# EAGLE library part HEX (library dec-con)
Hex-Height DEC Edge Connector
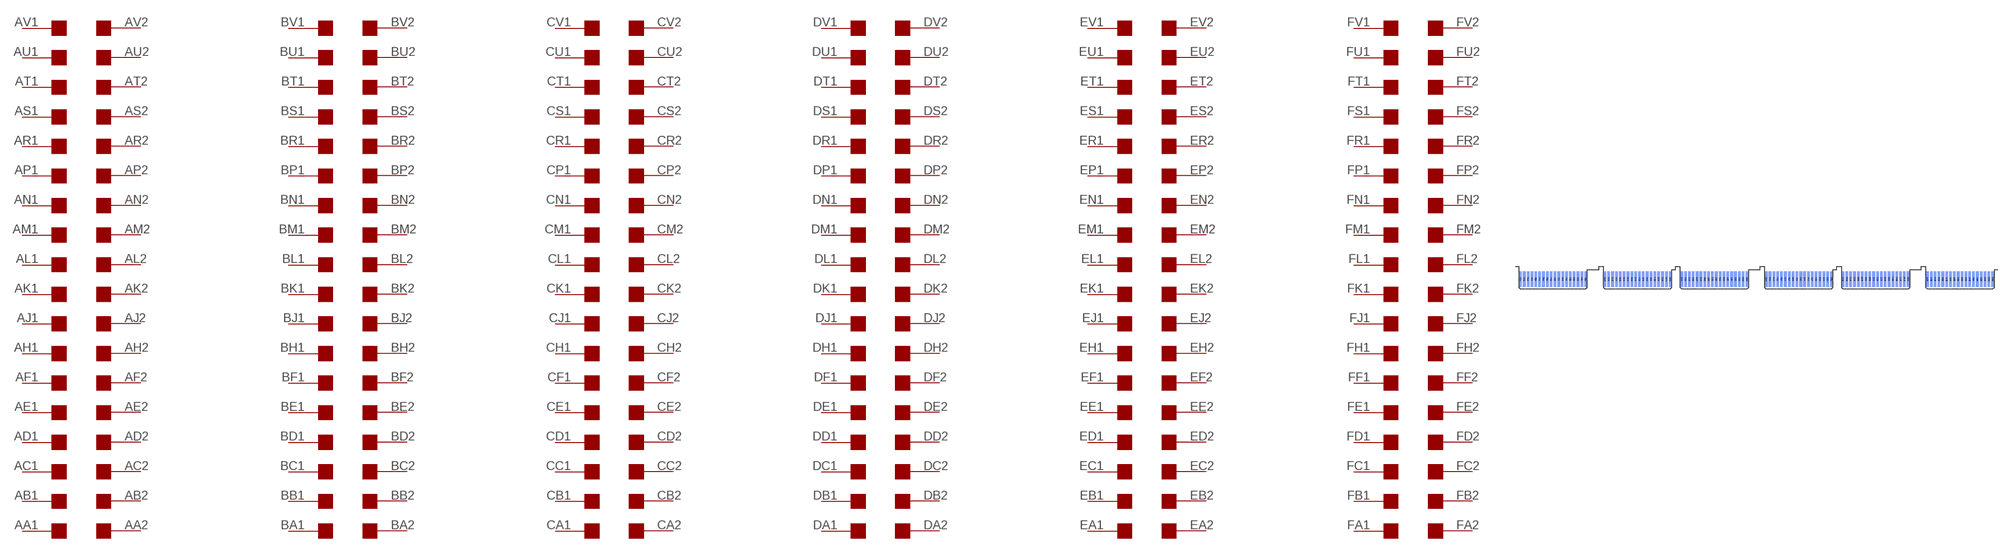
[diagram p14: symbol with the pads of EDGE-CON12; footprint EDGE-CON12]

Designator prefix -; gates AL2=EDGE-RIGHT AM2=EDGE-RIGHT AN2=EDGE-RIGHT AP2=EDGE-RIGHT AR2=EDGE-RIGHT AS2=EDGE-RIGHT AT2=EDGE-RIGHT AK2=EDGE-RIGHT AJ2=EDGE-RIGHT AH2=EDGE-RIGHT AF2=EDGE-RIGHT AE2=EDGE-RIGHT AD2=EDGE-RIGHT AC2=EDGE-RIGHT AU2=EDGE-RIGHT AV2=EDGE-RIGHT AB2=EDGE-RIGHT AA2=EDGE-RIGHT AK1=EDGE-LEFT AL1=EDGE-LEFT AM1=EDGE-LEFT AN1=EDGE-LEFT AP1=EDGE-LEFT AR1=EDGE-LEFT AS1=EDGE-LEFT AT1=EDGE-LEFT AU1=EDGE-LEFT AV1=EDGE-LEFT AJ1=EDGE-LEFT AH1=EDGE-LEFT AF1=EDGE-LEFT AE1=EDGE-LEFT AD1=EDGE-LEFT AC1=EDGE-LEFT AB1=EDGE-LEFT AA1=EDGE-LEFT BV1=EDGE-LEFT BU1=EDGE-LEFT BT1=EDGE-LEFT BS1=EDGE-LEFT BR1=EDGE-LEFT BP1=EDGE-LEFT BN1=EDGE-LEFT BM1=EDGE-LEFT BL1=EDGE-LEFT BK1=EDGE-LEFT BJ1=EDGE-LEFT BH1=EDGE-LEFT BF1=EDGE-LEFT BE1=EDGE-LEFT BD1=EDGE-LEFT BC1=EDGE-LEFT BB1=EDGE-LEFT BA1=EDGE-LEFT BV2=EDGE-RIGHT BU2=EDGE-RIGHT BT2=EDGE-RIGHT BS2=EDGE-RIGHT BR2=EDGE-RIGHT BP2=EDGE-RIGHT BN2=EDGE-RIGHT BM2=EDGE-RIGHT BL2=EDGE-RIGHT BK2=EDGE-RIGHT BJ2=EDGE-RIGHT BH2=EDGE-RIGHT BF2=EDGE-RIGHT BE2=EDGE-RIGHT BD2=EDGE-RIGHT BC2=EDGE-RIGHT BB2=EDGE-RIGHT BA2=EDGE-RIGHT CV1=EDGE-LEFT CU1=EDGE-LEFT CT1=EDGE-LEFT CS1=EDGE-LEFT CR1=EDGE-LEFT CP1=EDGE-LEFT CN1=EDGE-LEFT CM1=EDGE-LEFT CL1=EDGE-LEFT CK1=EDGE-LEFT CJ1=EDGE-LEFT CH1=EDGE-LEFT CF1=EDGE-LEFT CE1=EDGE-LEFT CD1=EDGE-LEFT CC1=EDGE-LEFT CB1=EDGE-LEFT CA1=EDGE-LEFT DV1=EDGE-LEFT DU1=EDGE-LEFT DT1=EDGE-LEFT DS1=EDGE-LEFT DR1=EDGE-LEFT DP1=EDGE-LEFT DN1=EDGE-LEFT DM1=EDGE-LEFT DL1=EDGE-LEFT DK1=EDGE-LEFT DJ1=EDGE-LEFT DH1=EDGE-LEFT DF1=EDGE-LEFT DE1=EDGE-LEFT DD1=EDGE-LEFT DC1=EDGE-LEFT DB1=EDGE-LEFT DA1=EDGE-LEFT CV2=EDGE-RIGHT CU2=EDGE-RIGHT CT2=EDGE-RIGHT CS2=EDGE-RIGHT CR2=EDGE-RIGHT CP2=EDGE-RIGHT CN2=EDGE-RIGHT CM2=EDGE-RIGHT CL2=EDGE-RIGHT CK2=EDGE-RIGHT CJ2=EDGE-RIGHT CH2=EDGE-RIGHT CF2=EDGE-RIGHT CE2=EDGE-RIGHT CD2=EDGE-RIGHT CC2=EDGE-RIGHT CB2=EDGE-RIGHT CA2=EDGE-RIGHT DV2=EDGE-RIGHT DU2=EDGE-RIGHT DT2=EDGE-RIGHT DS2=EDGE-RIGHT DR2=EDGE-RIGHT DP2=EDGE-RIGHT DN2=EDGE-RIGHT DM2=EDGE-RIGHT DL2=EDGE-RIGHT DK2=EDGE-RIGHT DJ2=EDGE-RIGHT DH2=EDGE-RIGHT DF2=EDGE-RIGHT DE2=EDGE-RIGHT DD2=EDGE-RIGHT DC2=EDGE-RIGHT DB2=EDGE-RIGHT DA2=EDGE-RIGHT EV1=EDGE-LEFT EU1=EDGE-LEFT ET1=EDGE-LEFT ES1=EDGE-LEFT ER1=EDGE-LEFT EP1=EDGE-LEFT EN1=EDGE-LEFT EM1=EDGE-LEFT EL1=EDGE-LEFT EK1=EDGE-LEFT EJ1=EDGE-LEFT EH1=EDGE-LEFT EF1=EDGE-LEFT EE1=EDGE-LEFT ED1=EDGE-LEFT EC1=EDGE-LEFT EB1=EDGE-LEFT EA1=EDGE-LEFT FV1=EDGE-LEFT FU1=EDGE-LEFT FT1=EDGE-LEFT FS1=EDGE-LEFT FR1=EDGE-LEFT FP1=EDGE-LEFT FN1=EDGE-LEFT FM1=EDGE-LEFT FL1=EDGE-LEFT FK1=EDGE-LEFT FJ1=EDGE-LEFT FH1=EDGE-LEFT FF1=EDGE-LEFT FE1=EDGE-LEFT FD1=EDGE-LEFT FC1=EDGE-LEFT FB1=EDGE-LEFT FA1=EDGE-LEFT EV2=EDGE-RIGHT EU2=EDGE-RIGHT ET2=EDGE-RIGHT ES2=EDGE-RIGHT ER2=EDGE-RIGHT EP2=EDGE-RIGHT EN2=EDGE-RIGHT EM2=EDGE-RIGHT EL2=EDGE-RIGHT EK2=EDGE-RIGHT EJ2=EDGE-RIGHT EH2=EDGE-RIGHT EF2=EDGE-RIGHT EE2=EDGE-RIGHT ED2=EDGE-RIGHT EC2=EDGE-RIGHT EB2=EDGE-RIGHT EA2=EDGE-RIGHT FV2=EDGE-RIGHT FU2=EDGE-RIGHT FT2=EDGE-RIGHT FS2=EDGE-RIGHT FR2=EDGE-RIGHT FP2=EDGE-RIGHT FN2=EDGE-RIGHT FM2=EDGE-RIGHT FL2=EDGE-RIGHT FK2=EDGE-RIGHT FJ2=EDGE-RIGHT FH2=EDGE-RIGHT FF2=EDGE-RIGHT FE2=EDGE-RIGHT FD2=EDGE-RIGHT FC2=EDGE-RIGHT FB2=EDGE-RIGHT FA2=EDGE-RIGHT

## HEX  [EDGE-CON12]
AA1  AA1:1
AA2  AA2:1
AB1  AB1:1
AB2  AB2:1
AC1  AC1:1
AC2  AC2:1
AD1  AD1:1
AD2  AD2:1
AE1  AE1:1
AE2  AE2:1
AF1  AF1:1
AF2  AF2:1
AH1  AH1:1
AH2  AH2:1
AJ1  AJ1:1
AJ2  AJ2:1
AK1  AK1:1
AK2  AK2:1
AL1  AL1:1
AL2  AL2:1
AM1  AM1:1
AM2  AM2:1
AN1  AN1:1
AN2  AN2:1
AP1  AP1:1
AP2  AP2:1
AR1  AR1:1
AR2  AR2:1
AS1  AS1:1
AS2  AS2:1
AT1  AT1:1
AT2  AT2:1
AU1  AU1:1
AU2  AU2:1
AV1  AV1:1
AV2  AV2:1
BA1  BA1:1
BA2  BA2:1
BB1  BB1:1
BB2  BB2:1
BC1  BC1:1
BC2  BC2:1
BD1  BD1:1
BD2  BD2:1
BE1  BE1:1
BE2  BE2:1
BF1  BF1:1
BF2  BF2:1
BH1  BH1:1
BH2  BH2:1
BJ1  BJ1:1
BJ2  BJ2:1
BK1  BK1:1
BK2  BK2:1
BL1  BL1:1
BL2  BL2:1
BM1  BM1:1
BM2  BM2:1
BN1  BN1:1
BN2  BN2:1
BP1  BP1:1
BP2  BP2:1
BR1  BR1:1
BR2  BR2:1
BS1  BS1:1
BS2  BS2:1
BT1  BT1:1
BT2  BT2:1
BU1  BU1:1
BU2  BU2:1
BV1  BV1:1
BV2  BV2:1
CA1  CA1:1
CA2  CA2:1
CB1  CB1:1
CB2  CB2:1
CC1  CC1:1
CC2  CC2:1
CD1  CD1:1
CD2  CD2:1
CE1  CE1:1
CE2  CE2:1
CF1  CF1:1
CF2  CF2:1
CH1  CH1:1
CH2  CH2:1
CJ1  CJ1:1
CJ2  CJ2:1
CK1  CK1:1
CK2  CK2:1
CL1  CL1:1
CL2  CL2:1
CM1  CM1:1
CM2  CM2:1
CN1  CN1:1
CN2  CN2:1
CP1  CP1:1
CP2  CP2:1
CR1  CR1:1
CR2  CR2:1
CS1  CS1:1
CS2  CS2:1
CT1  CT1:1
CT2  CT2:1
CU1  CU1:1
CU2  CU2:1
CV1  CV1:1
CV2  CV2:1
DA1  DA1:1
DA2  DA2:1
DB1  DB1:1
DB2  DB2:1
DC1  DC1:1
DC2  DC2:1
DD1  DD1:1
DD2  DD2:1
DE1  DE1:1
DE2  DE2:1
DF1  DF1:1
DF2  DF2:1
DH1  DH1:1
DH2  DH2:1
DJ1  DJ1:1
DJ2  DJ2:1
DK1  DK1:1
DK2  DK2:1
DL1  DL1:1
DL2  DL2:1
DM1  DM1:1
DM2  DM2:1
DN1  DN1:1
DN2  DN2:1
DP1  DP1:1
DP2  DP2:1
DR1  DR1:1
DR2  DR2:1
DS1  DS1:1
DS2  DS2:1
DT1  DT1:1
DT2  DT2:1
DU1  DU1:1
DU2  DU2:1
DV1  DV1:1
DV2  DV2:1
EA1  EA1:1
EA2  EA2:1
EB1  EB1:1
EB2  EB2:1
EC1  EC1:1
EC2  EC2:1
ED1  ED1:1
ED2  ED2:1
EE1  EE1:1
EE2  EE2:1
EF1  EF1:1
EF2  EF2:1
EH1  EH1:1
EH2  EH2:1
EJ1  EJ1:1
EJ2  EJ2:1
EK1  EK1:1
EK2  EK2:1
EL1  EL1:1
EL2  EL2:1
EM1  EM1:1
EM2  EM2:1
EN1  EN1:1
EN2  EN2:1
EP1  EP1:1
EP2  EP2:1
ER1  ER1:1
ER2  ER2:1
ES1  ES1:1
ES2  ES2:1
ET1  ET1:1
ET2  ET2:1
EU1  EU1:1
EU2  EU2:1
EV1  EV1:1
EV2  EV2:1
FA1  FA1:1
FA2  FA2:1
FB1  FB1:1
FB2  FB2:1
FC1  FC1:1
FC2  FC2:1
FD1  FD1:1
FD2  FD2:1
FE1  FE1:1
FE2  FE2:1
FF1  FF1:1
FF2  FF2:1
FH1  FH1:1
FH2  FH2:1
FJ1  FJ1:1
FJ2  FJ2:1
FK1  FK1:1
FK2  FK2:1
FL1  FL1:1
FL2  FL2:1
FM1  FM1:1
FM2  FM2:1
FN1  FN1:1
FN2  FN2:1
FP1  FP1:1
FP2  FP2:1
FR1  FR1:1
FR2  FR2:1
FS1  FS1:1
FS2  FS2:1
FT1  FT1:1
FT2  FT2:1
FU1  FU1:1
FU2  FU2:1
FV1  FV1:1
FV2  FV2:1

## Footprint EDGE-CON12 (pad centres in mm)
HexHeight DEC edge connector
smd 2.032 x 13.106: AA1 394.652,7.938; AB1 391.478,7.938; AC1 388.303,7.938; AD1 385.127,7.938; AE1 381.952,7.938; AF1 378.777,7.938; AH1 375.603,7.938; AJ1 372.428,7.938; AK1 369.252,7.938; AL1 366.077,7.938; AM1 362.902,7.938; AN1 359.728,7.938; AP1 356.553,7.938; AR1 353.377,7.938; AS1 350.202,7.938; AT1 347.027,7.938; AU1 343.853,7.938; AV1 340.678,7.938; BA1 324.803,7.938; BB1 321.627,7.938; BC1 318.452,7.938; BD1 315.277,7.938; BE1 312.103,7.938; BF1 308.928,7.938; BH1 305.752,7.938; BJ1 302.577,7.938; BK1 299.402,7.938; BL1 296.228,7.938; BM1 293.053,7.938; BN1 289.877,7.938; BP1 286.702,7.938; BR1 283.527,7.938; BS1 280.353,7.938; BT1 277.178,7.938; BU1 274.002,7.938; BV1 270.827,7.938; CA1 261.303,7.938; CB1 258.127,7.938; CC1 254.952,7.938; CD1 251.778,7.938; CE1 248.602,7.938; CF1 245.428,7.938; CH1 242.252,7.938; CJ1 239.077,7.938; CK1 235.903,7.938; CL1 232.727,7.938; CM1 229.553,7.938; CN1 226.377,7.938; CP1 223.202,7.938; CR1 220.028,7.938; CS1 216.852,7.938; CT1 213.678,7.938; CU1 210.502,7.938; CV1 207.327,7.938; DA1 191.452,7.938; DB1 188.278,7.938; DC1 185.102,7.938; DD1 181.928,7.938; DE1 178.752,7.938; DF1 175.577,7.938; DH1 172.403,7.938; DJ1 169.227,7.938; DK1 166.053,7.938; DL1 162.877,7.938; DM1 159.702,7.938; DN1 156.528,7.938; DP1 153.352,7.938; DR1 150.178,7.938; DS1 147.002,7.938; DT1 143.827,7.938; DU1 140.653,7.938; DV1 137.477,7.938; EA1 127.953,7.938; EB1 124.778,7.938; EC1 121.603,7.938; ED1 118.427,7.938; EE1 115.252,7.938; EF1 112.078,7.938; EH1 108.903,7.938; EJ1 105.728,7.938; EK1 102.552,7.938; EL1 99.377,7.938; EM1 96.203,7.938; EN1 93.028,7.938; EP1 89.853,7.938; ER1 86.677,7.938; ES1 83.502,7.938; ET1 80.328,7.938; EU1 77.153,7.938; EV1 73.978,7.938; FA1 58.102,7.938; FB1 54.928,7.938; FC1 51.752,7.938; FD1 48.578,7.938; FE1 45.403,7.938; FF1 42.227,7.938; FH1 39.053,7.938; FJ1 35.877,7.938; FK1 32.703,7.938; FL1 29.527,7.938; FM1 26.352,7.938; FN1 23.177,7.938; FP1 20.003,7.938; FR1 16.828,7.938; FS1 13.652,7.938; FT1 10.477,7.938; FU1 7.303,7.938; FV1 4.128,7.938
smd 2.032 x 13.106 bottom: AA2 394.652,7.938; AB2 391.478,7.938; AC2 388.303,7.938; AD2 385.127,7.938; AE2 381.952,7.938; AF2 378.777,7.938; AH2 375.603,7.938; AJ2 372.428,7.938; AK2 369.252,7.938; AL2 366.077,7.938; AM2 362.902,7.938; AN2 359.728,7.938; AP2 356.553,7.938; AR2 353.377,7.938; AS2 350.202,7.938; AT2 347.027,7.938; AU2 343.853,7.938; AV2 340.678,7.938; BA2 324.803,7.938; BB2 321.627,7.938; BC2 318.452,7.938; BD2 315.277,7.938; BE2 312.103,7.938; BF2 308.928,7.938; BH2 305.752,7.938; BJ2 302.577,7.938; BK2 299.402,7.938; BL2 296.228,7.938; BM2 293.053,7.938; BN2 289.877,7.938; BP2 286.702,7.938; BR2 283.527,7.938; BS2 280.353,7.938; BT2 277.178,7.938; BU2 274.002,7.938; BV2 270.827,7.938; CA2 261.303,7.938; CB2 258.127,7.938; CC2 254.952,7.938; CD2 251.778,7.938; CE2 248.602,7.938; CF2 245.428,7.938; CH2 242.252,7.938; CJ2 239.077,7.938; CK2 235.903,7.938; CL2 232.727,7.938; CM2 229.553,7.938; CN2 226.377,7.938; CP2 223.202,7.938; CR2 220.028,7.938; CS2 216.852,7.938; CT2 213.678,7.938; CU2 210.502,7.938; CV2 207.327,7.938; DA2 191.452,7.938; DB2 188.278,7.938; DC2 185.102,7.938; DD2 181.928,7.938; DE2 178.752,7.938; DF2 175.577,7.938; DH2 172.403,7.938; DJ2 169.227,7.938; DK2 166.053,7.938; DL2 162.877,7.938; DM2 159.702,7.938; DN2 156.528,7.938; DP2 153.352,7.938; DR2 150.178,7.938; DS2 147.002,7.938; DT2 143.827,7.938; DU2 140.653,7.938; DV2 137.477,7.938; EA2 127.953,7.938; EB2 124.778,7.938; EC2 121.603,7.938; ED2 118.427,7.938; EE2 115.252,7.938; EF2 112.078,7.938; EH2 108.903,7.938; EJ2 105.728,7.938; EK2 102.552,7.938; EL2 99.377,7.938; EM2 96.203,7.938; EN2 93.028,7.938; EP2 89.853,7.938; ER2 86.677,7.938; ES2 83.502,7.938; ET2 80.328,7.938; EU2 77.153,7.938; EV2 73.978,7.938; FA2 58.102,7.938; FB2 54.928,7.938; FC2 51.752,7.938; FD2 48.578,7.938; FE2 45.403,7.938; FF2 42.227,7.938; FH2 39.053,7.938; FJ2 35.877,7.938; FK2 32.703,7.938; FL2 29.527,7.938; FM2 26.352,7.938; FN2 23.177,7.938; FP2 20.003,7.938; FR2 16.828,7.938; FS2 13.652,7.938; FT2 10.477,7.938; FU2 7.303,7.938; FV2 4.128,7.938